# Altium footprint library Header-254-single-horizontal-F.PcbLib: 24 footprints (part 2 of 2)
Each footprint in its own frame and in the unit in brackets; x right, y up, seen from the top. Pads: shape width x height; smd on the part's side, far side on the other; paste and mask are expansions set on the pad; w line width, h text height; cw(c..) or ccw(c..) is an arc to the next point about the centre after c.
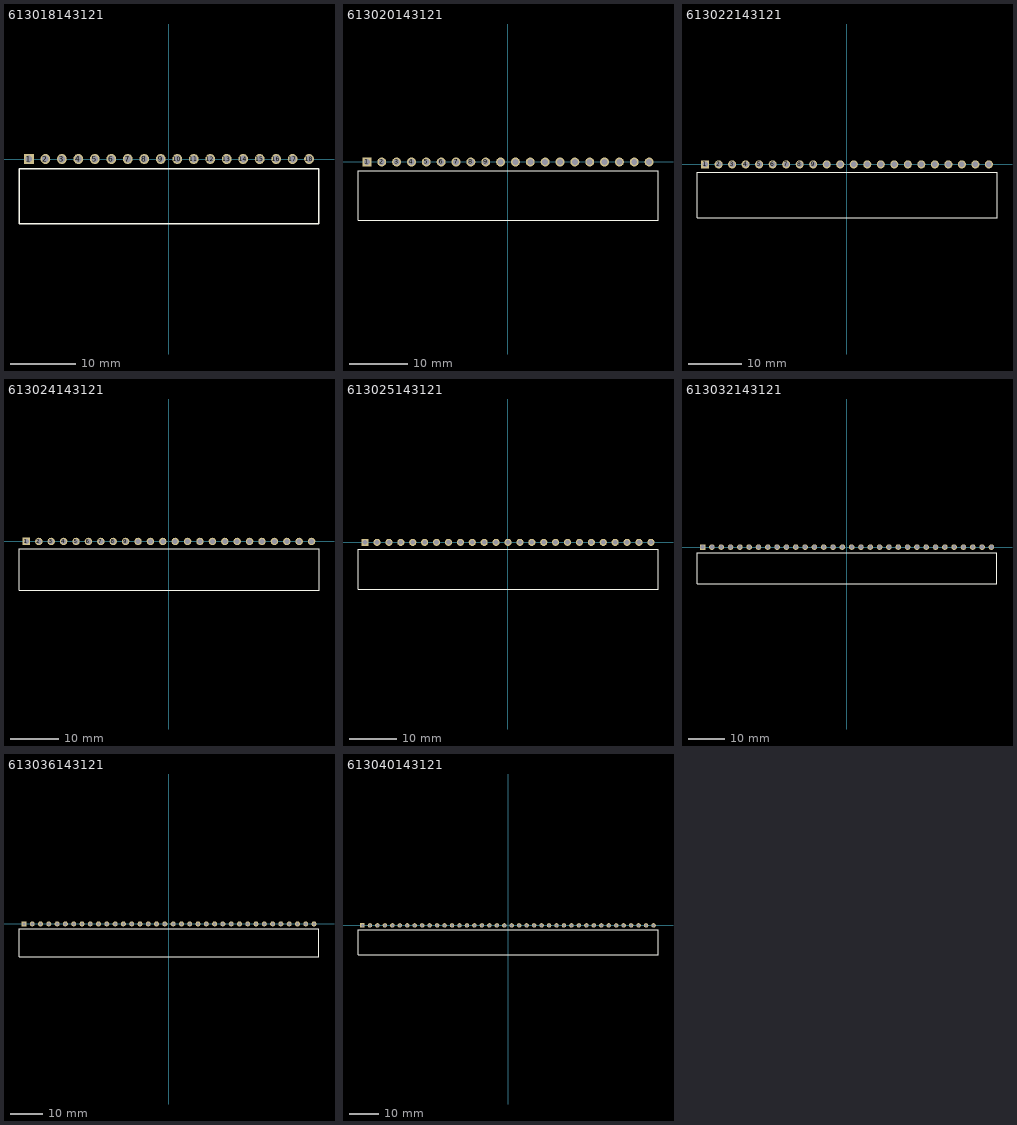
[diagram p1: the footprints below, top view; thin cyan lines are the x and y axes]

## 613018143121 [mm] "18p 1 row Right angle"
height 2.5
pads (18):
  rect 1.52x1.52 hole 1.02: 1(-21.59,0)
  round 1.52 hole 1.02: 2(-19.05,0) 3(-16.51,0) 4(-13.97,0) 5(-11.43,0) 6(-8.89,0) 7(-6.35,0) 8(-3.81,0) 9(-1.27,0) 10(1.27,0) 11(3.81,0) 12(6.35,0) 13(8.89,0) 14(11.43,0) 15(13.97,0) 16(16.51,0) 17(19.05,0) 18(21.59,0)
Top Overlay:
  lines w0.2: -23.11,-10 23.11,-10 23.11,-1.5 -23.11,-1.5 -23.11,-10
3D body "613018143121.stp": height 2.51, standoff -3.08, extent -23.11,-10 23.11,0.3

## 613020143121 [mm] "20p 1 row Right angle"
height 2.5
pads (20):
  rect 1.52x1.52 hole 1.02: 1(-24.13,0)
  round 1.52 hole 1.02: 2(-21.59,0) 3(-19.05,0) 4(-16.51,0) 5(-13.97,0) 6(-11.43,0) 7(-8.89,0) 8(-6.35,0) 9(-3.81,0) 10(-1.27,0) 11(1.27,0) 12(3.81,0) 13(6.35,0) 14(8.89,0) 15(11.43,0) 16(13.97,0) 17(16.51,0) 18(19.05,0) 19(21.59,0) 20(24.13,0)
Top Overlay:
  lines w0.2: -25.65,-10 25.65,-10 25.65,-1.5 -25.65,-1.5 -25.65,-10
3D body "613020143121.stp": height 2.51, standoff -3.08, extent -25.65,-10 25.65,0.3

## 613022143121 [mm] "22p 1 row Right angle"
height 2.5
pads (22):
  rect 1.52x1.52 hole 1.02: 1(-26.67,0)
  round 1.52 hole 1.02: 2(-24.13,0) 3(-21.59,0) 4(-19.05,0) 5(-16.51,0) 6(-13.97,0) 7(-11.43,0) 8(-8.89,0) 9(-6.35,0) 10(-3.81,0) 11(-1.27,0) 12(1.27,0) 13(3.81,0) 14(6.35,0) 15(8.89,0) 16(11.43,0) 17(13.97,0) 18(16.51,0) 19(19.05,0) 20(21.59,0) 21(24.13,0) 22(26.67,0)
Top Overlay:
  lines w0.2: -28.19,-10 -28.19,-1.5 28.19,-1.5 28.19,-10 -28.19,-10
3D body "613022143121.stp": height 2.51, standoff -3.08, extent -28.19,-10 28.19,0.3

## 613024143121 [mm] "24p 1 row Right angle"
height 2.5
pads (24):
  rect 1.52x1.52 hole 1.02: 1(-29.21,0)
  round 1.52 hole 1.02: 2(-26.67,0) 3(-24.13,0) 4(-21.59,0) 5(-19.05,0) 6(-16.51,0) 7(-13.97,0) 8(-11.43,0) 9(-8.89,0) 10(-6.35,0) 11(-3.81,0) 12(-1.27,0) 13(1.27,0) 14(3.81,0) 15(6.35,0) 16(8.89,0) 17(11.43,0) 18(13.97,0) 19(16.51,0) 20(19.05,0) 21(21.59,0) 22(24.13,0) 23(26.67,0) 24(29.21,0)
Top Overlay:
  lines w0.2: -30.73,-10 -30.73,-1.5 30.73,-1.5 30.73,-10 -30.73,-10
3D body "613024143121.stp": height 2.51, standoff -3.08, extent -30.73,-10 30.73,0.3

## 613025143121 [mm] "25p 1 row Right angle"
height 2.5
pads (25):
  rect 1.52x1.52 hole 1.02: 1(-30.48,0)
  round 1.52 hole 1.02: 2(-27.94,0) 3(-25.4,0) 4(-22.86,0) 5(-20.32,0) 6(-17.78,0) 7(-15.24,0) 8(-12.7,0) 9(-10.16,0) 10(-7.62,0) 11(-5.08,0) 12(-2.54,0) 13(0,0) 14(2.54,0) 15(5.08,0) 16(7.62,0) 17(10.16,0) 18(12.7,0) 19(15.24,0) 20(17.78,0) 21(20.32,0) 22(22.86,0) 23(25.4,0) 24(27.94,0) 25(30.48,0)
Top Overlay:
  lines w0.2: -32,-10 32,-10 32,-1.5 -32,-1.5 -32,-10
3D body "613025143121.stp": height 2.51, standoff -3.08, extent -32,-10 32,0.3

## 613032143121 [mm] "32p 1 row Right angle"
height 2.5
pads (32):
  rect 1.52x1.52 hole 1.02: 1(-39.37,0)
  round 1.52 hole 1.02: 2(-36.83,0) 3(-34.29,0) 4(-31.75,0) 5(-29.21,0) 6(-26.67,0) 7(-24.13,0) 8(-21.59,0) 9(-19.05,0) 10(-16.51,0) 11(-13.97,0) 12(-11.43,0) 13(-8.89,0) 14(-6.35,0) 15(-3.81,0) 16(-1.27,0) 17(1.27,0) 18(3.81,0) 19(6.35,0) 20(8.89,0) 21(11.43,0) 22(13.97,0) 23(16.51,0) 24(19.05,0) 25(21.59,0) 26(24.13,0) 27(26.67,0) 28(29.21,0) 29(31.75,0) 30(34.29,0) 31(36.83,0) 32(39.37,0)
Top Overlay:
  lines w0.2: -40.89,-10 -40.89,-1.5 40.89,-1.5 40.89,-10 -40.89,-10
3D body "613032143121.stp": height 2.51, standoff -3.08, extent -40.89,-10 40.89,0.3

## 613036143121 [mm] "36p 1 row Right angle"
height 2.5
pads (36):
  rect 1.52x1.52 hole 1.02: 1(-44.45,0)
  round 1.52 hole 1.02: 2(-41.91,0) 3(-39.37,0) 4(-36.83,0) 5(-34.29,0) 6(-31.75,0) 7(-29.21,0) 8(-26.67,0) 9(-24.13,0) 10(-21.59,0) 11(-19.05,0) 12(-16.51,0) 13(-13.97,0) 14(-11.43,0) 15(-8.89,0) 16(-6.35,0) 17(-3.81,0) 18(-1.27,0) 19(1.27,0) 20(3.81,0) 21(6.35,0) 22(8.89,0) 23(11.43,0) 24(13.97,0) 25(16.51,0) 26(19.05,0) 27(21.59,0) 28(24.13,0) 29(26.67,0) 30(29.21,0) 31(31.75,0) 32(34.29,0) 33(36.83,0) 34(39.37,0) 35(41.91,0) 36(44.45,0)
Top Overlay:
  lines w0.2: -45.97,-10 45.97,-10 45.97,-1.5 -45.97,-1.5 -45.97,-10
3D body "613036143121.stp": height 2.51, standoff -3.08, extent -45.97,-10 45.97,0.3

## 613040143121 [mm] "40p 1 row Right angle"
height 2.5
pads (40):
  rect 1.52x1.52 hole 1.02: 1(-49.53,0)
  round 1.52 hole 1.02: 2(-46.99,0) 3(-44.45,0) 4(-41.91,0) 5(-39.37,0) 6(-36.83,0) 7(-34.29,0) 8(-31.75,0) 9(-29.21,0) 10(-26.67,0) 11(-24.13,0) 12(-21.59,0) 13(-19.05,0) 14(-16.51,0) 15(-13.97,0) 16(-11.43,0) 17(-8.89,0) 18(-6.35,0) 19(-3.81,0) 20(-1.27,0) 21(1.27,0) 22(3.81,0) 23(6.35,0) 24(8.89,0) 25(11.43,0) 26(13.97,0) 27(16.51,0) 28(19.05,0) 29(21.59,0) 30(24.13,0) 31(26.67,0) 32(29.21,0) 33(31.75,0) 34(34.29,0) 35(36.83,0) 36(39.37,0) 37(41.91,0) 38(44.45,0) 39(46.99,0) 40(49.53,0)
Top Overlay:
  lines w0.2: -51.05,-10 51.05,-10 51.05,-1.5 -51.05,-1.5 -51.05,-10
3D body "613040143121.stp": height 2.51, standoff -3.08, extent -51.05,-10 51.05,0